# EAGLE library part MOLEX_48408-0003 (library CASE-USB)
MOLEX 48408-0003 - USB 3.0, A-type connector, Vertical Description: MOLEX 48408-0003 - USB 3.0, A-type connector, Vertical version Links: Datasheet <http://www.farnell.com/datasheets/2696900.pdf?_ga=2.152709817.1447723991.1543172331-1112771566.1525371275>
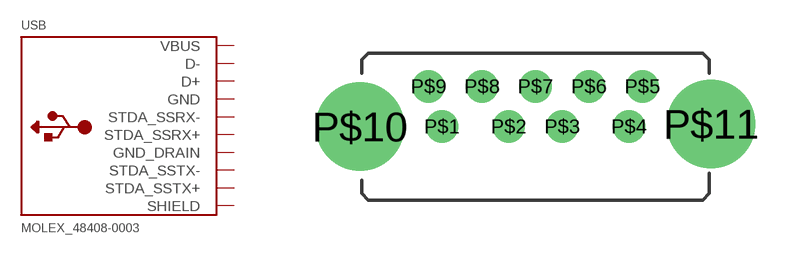
[diagram p1: symbol with the pads of MOLEX_48408-0003; footprint MOLEX_48408-0003]

Designator prefix USB

## MOLEX_48408-0003  [MOLEX_48408-0003]
P$1  VBUS  pwr
P$2  D-
P$3  D+
P$4  GND  pwr
P$5  STDA_SSRX-
P$6  STDA_SSRX+
P$7  GND_DRAIN  pwr
P$8  STDA_SSTX-
P$9  STDA_SSTX+
P$10  SHIELD
P$11  SHIELD

## Footprint MOLEX_48408-0003 (pad centres in mm)
MOLEX 48408-0003 Datasheet <https://www.molex.com/pdm_docs/sd/484080003_sd.pdf>
drill 0.7: P$1 -3.5,0; P$2 -1,0; P$3 1,0; P$4 3.5,0; P$5 4,1.5; P$6 2,1.5; P$7 0,1.5; P$8 -2,1.5; P$9 -4,1.5
drill 2.3: P$10 -6.57,0; P$11 6.57,0.1